# EAGLE library part ARDUINO_R3 (library 3D_MIG_Controller)
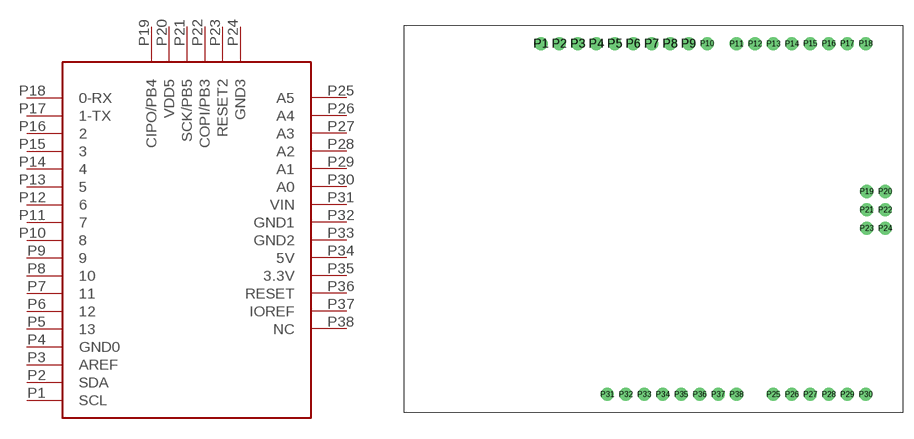
[diagram p84: symbol with the pads of ARDUINO_R3; footprint ARDUINO_R3]

Designator prefix AR

## ARDUINO_R3  [ARDUINO_R3]
P1  SCL
P2  SDA
P3  AREF
P4  GND0
P5  13
P6  12
P7  11
P8  10
P9  9
P10  8
P11  7
P12  6
P13  5
P14  4
P15  3
P16  2
P17  1-TX
P18  0-RX
P19  CIPO/PB4
P20  VDD5
P21  SCK/PB5
P22  COPI/PB3
P23  RESET2
P24  GND3
P25  A5
P26  A4
P27  A3
P28  A2
P29  A1
P30  A0
P31  VIN
P32  GND1
P33  GND2
P34  5V
P35  3.3V
P36  RESET
P37  IOREF
P38  NC

## Footprint ARDUINO_R3 (pad centres in mm)
drill 1.2: P1 18.8,50.84; P2 21.34,50.84; P3 23.88,50.84; P4 26.42,50.84; P5 28.96,50.84; P6 31.5,50.84; P7 34.04,50.84; P8 36.58,50.84; P9 39.12,50.84; P10 41.66,50.84; P11 45.72,50.8; P12 48.26,50.8; P13 50.8,50.8; P14 53.34,50.8; P15 55.88,50.84; P16 58.42,50.84; P17 60.96,50.84; P18 63.5,50.84; P19 63.627,30.48; P20 66.167,30.48; P21 63.627,27.94; P22 66.167,27.94; P23 63.627,25.4; P24 66.167,25.4; P25 50.8,2.54; P26 53.34,2.54; P27 55.88,2.54; P28 58.42,2.54; P29 60.96,2.54; P30 63.5,2.54; P31 27.94,2.54; P32 30.48,2.54; P33 33.02,2.54; P34 35.56,2.54; P35 38.1,2.54; P36 40.64,2.54; P37 43.18,2.54; P38 45.72,2.54